# EAGLE library part BOOST-CONVERTER-TPS6120X (library FlashPCB_ICs)
TPS6120x - IC REG BOOST ADJ 1.2A 10VSON Technical Specifications: Boost Switching Regulator IC Positive Adjustable 1.8V 1 Output 1.2A (Switch) 10-VFDFN Exposed Pad Function: Step-Up / Boost Converter, Synchronous Rectifier Output Configuration: Positive, Adjustable Input Voltage: 0.3V~5.5V Output Voltage: 1.8V~5.5V Output Current: 1.2A (Switch) Switching Freq: 1.25MHz~1.65MHz Component Search: TPS6120x <https://www.flashpcb.com/components> Datasheet: TPS6120x Low Input Voltage Synchronous Boost Converter With 1.3-A Switches datasheet (Rev. E) <https://www.ti.com/lit/ds/symlink/tps61202.pdf?HQS=dis-dk-null-digikeymode-dsf-pf-null-wwe&ts=1686236785684&ref_url=https%253A%252F%252Fwww.ti.com%252Fgeneral%252Fdocs%252Fsuppproductinfo.tsp%253FdistId%253D10%2526gotoUrl%253Dhttps%253A%252F%252Fwww.ti.com%252Flit%252Fgpn%252Ftps61202>
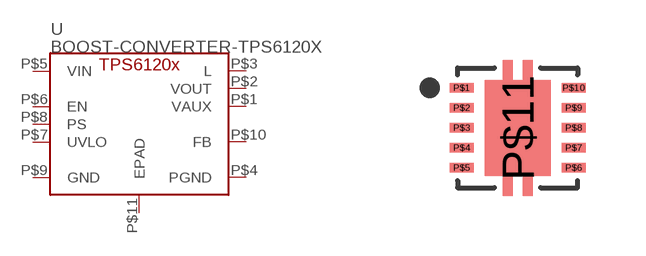
[diagram p28: symbol with the pads of 10-VSON(3X3); footprint 10-VSON(3X3)]

Designator prefix U

## BOOST-CONVERTER-TPS6120XDRC  [10-VSON(3X3)]
P$1  VAUX
P$2  VOUT
P$3  L
P$4  PGND
P$5  VIN
P$6  EN
P$7  UVLO
P$8  PS
P$9  GND
P$10  FB
P$11  EPAD

## Footprint 10-VSON(3X3) (pad centres in mm)
smd 0.6 x 0.24: P$1 -1.4,1; P$2 -1.4,0.5; P$3 -1.4,0; P$4 -1.4,-0.5; P$5 -1.4,-1; P$6 1.4,-1; P$7 1.4,-0.5; P$8 1.4,0; P$9 1.4,0.5; P$10 1.4,1
smd 1.65 x 2.4: P$11 0,0